# EAGLE library part MLX90393 (library bschulz)
MLX90393 - High Performance 3 Axis Magnetic Sensor (Compass) Characteristics: VDD: 2.2V ~ 3.6V VDD,IO: 1.65 ~ VDD IQ: 2.4μA (idle), 100μA (nominal) Range: ±50G to ±500G (depending on gain) Operating Temperature: -40°C to 85°C Digikey: MLX90393SLW-ABA-011-RECT-ND <https://www.digikey.com/en/products/detail/melexis-technologies-nv/MLX90393SLW-ABA-011-RE/5031683>
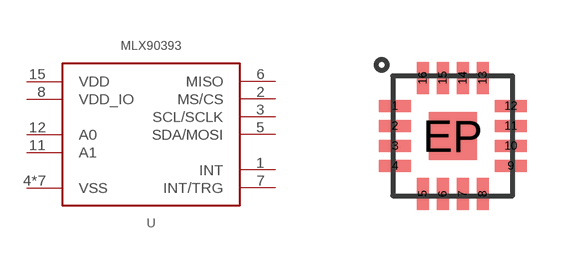
[diagram p193: symbol with the pads of QFN16_3X3; footprint QFN16_3X3]

Designator prefix U

## MLX90393 (DIGIKEY: MLX90393SLW-ABA-011-RECT-ND; MF: Melexis; MPN: MLX90393SLW-ABA-011-RE)  [QFN16_3X3]
1  INT  out
2  MS/CS
3  SCL/SCLK
4  VSS  pwr
5  SDA/MOSI
6  MISO
7  INT/TRG  out
8  VDD_IO  pwr
9  VSS  pwr
10  VSS  pwr
11  A1  in
12  A0  in
13  VSS  pwr
14  VSS  pwr
15  VDD  pwr
16  VSS  pwr
EP  VSS  pwr

## Footprint QFN16_3X3 (pad centres in mm)
QFN - 16 Pin, 3x3mm Datasheet <https://ww1.microchip.com/downloads/en/DeviceDoc/20002121C.pdf>
smd 0.8 x 0.3: 1 -1.45,0.75; 2 -1.45,0.25; 3 -1.45,-0.25; 4 -1.45,-0.75; 9 1.45,-0.75; 10 1.45,-0.25; 11 1.45,0.25; 12 1.45,0.75
smd 0.3 x 0.8: 5 -0.75,-1.45; 6 -0.25,-1.45; 7 0.25,-1.45; 8 0.75,-1.45; 13 0.75,1.45; 14 0.25,1.45; 15 -0.25,1.45; 16 -0.75,1.45
smd 1.2 x 1.2: EP 0,0